# Altium schematic symbol library 常用原件库.SchLib: 31 symbols
Pins are listed as number, name and electrical type; pins without a type are passive.

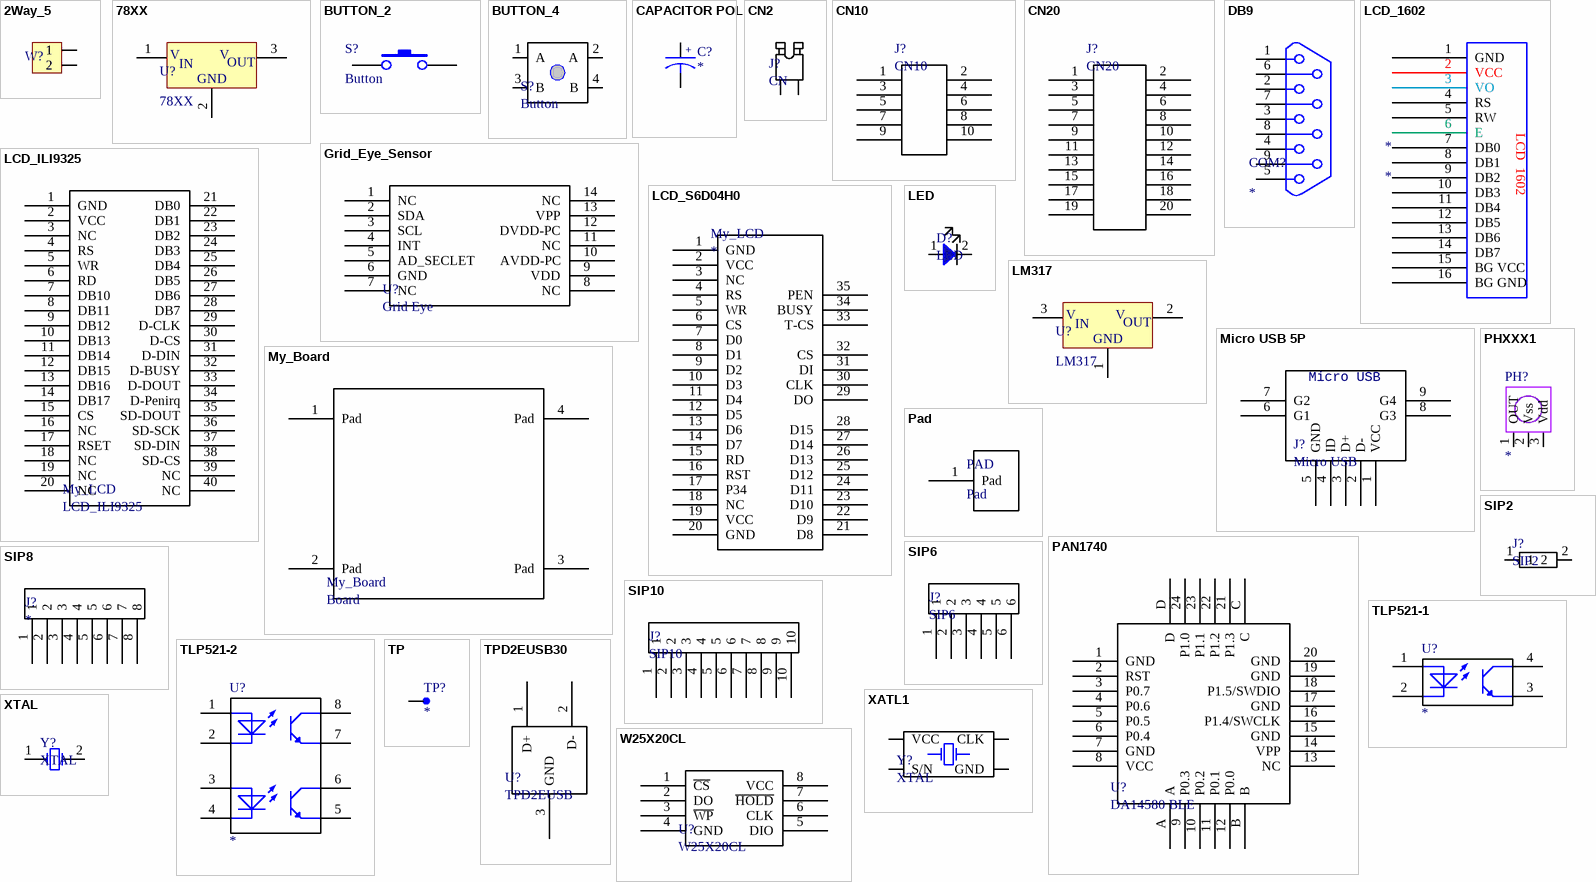
[diagram p0: symbols 2Way_5 to XTAL]

## 2Way_5
designator W?  (value not drawn)
DB
footprint 2Way_5
pins: 1, 2

## 78XX
designator U?
78XX 系列稳压芯片
footprint 78XX (78 系列的稳压片)
footprint TO-220
pins: 1 VIN, 2 GND, 3 VOUT
text: V; IN; OUT

## BUTTON_2
designator S?, comment Button
二脚按键
pins: 1, 2

## BUTTON_4
designator S?, comment Button
四脚按键
footprint My_Button (My Botton 4 pins)
pins: 1 A "My Pad", 2 A "My Pad", 3 B "My Pad", 4 B "My Pad"

## CAPACITOR POL
designator C?
Capacitor
footprint Cap_Pol_F5 (Cap F5)
footprint Cap_Pol_F6 (Cap F5)
pins: 1, 2
text: +

## CN2
designator J?, comment CN
跳帽
footprint CN2 (Header 2 X 1)
pins: 1 "My Pad", 2 "My Pad"

## CN10
designator J?
5 X 2
footprint CN10 (Header 5 X 2)
pins: 1 "My Pad", 2 "My Pad", 3 "My Pad", 4 "My Pad", 5 "My Pad", 6 "My Pad", 7 "My Pad", 8 "My Pad", 9 "My Pad", 10 "My Pad"

## CN20
designator J?
10 X 2
footprint CN20
pins: 1 "My Pad", 2 "My Pad", 3 "My Pad", 4 "My Pad", 5 "My Pad", 6 "My Pad", 7 "My Pad", 8 "My Pad", 9 "My Pad", 10 "My Pad", 11 "My Pad", 12 "My Pad", 13 "My Pad", 14 "My Pad", 15 "My Pad", 16 "My Pad", 17 "My Pad", 18 "My Pad", 19 "My Pad", 20 "My Pad"

## DB9
designator COM?
串口母头
footprint DB9
pins: 1, 2, 3, 4, 5, 6, 7, 8, 9

## Grid_Eye_Sensor
designator U?, comment Grid Eye
Grid Eye Sensor
footprint Grid_Eye_Sensor (Grid Eye Sensor)
pins: 1 NC "My Pad", 2 SDA "My Pad", 3 SCL "My Pad", 4 INT "My Pad", 5 AD_SECLET "My Pad", 6 GND "My Pad", 7 NC "My Pad", 8 NC "My Pad", 9 VDD "My Pad", 10 AVDD-PC "My Pad", 11 NC "My Pad", 12 DVDD-PC "My Pad", 13 VPP "My Pad", 14 NC "My Pad"

## LCD_1602
designator *
pins: 1 GND, 2 VCC, 3 VO, 4 RS, 5 RW, 6 E, 7 DB0, 8 DB1, 9 DB2, 10 DB3, 11 DB4, 12 DB5, 13 DB6, 14 DB7, 15 BG VCC, 16 BG GND
text: LCD  1602

## LCD_ILI9325
designator My_LCD
LCD ILI9325
footprint ILI9325 (My  ILI9325 LCD module)
pins: 1 GND "My Pad", 2 VCC "My Pad", 3 NC "My Pad", 4 RS "My Pad", 5 WR "My Pad", 6 RD "My Pad", 7 DB10 "My Pad", 8 DB11 "My Pad", 9 DB12 "My Pad", 10 DB13 "My Pad", 11 DB14 "My Pad", 12 DB15 "My Pad", 13 DB16 "My Pad", 14 DB17 "My Pad", 15 CS "My Pad", 16 NC "My Pad", 17 RSET "My Pad", 18 NC "My Pad", 19 NC "My Pad", 20 NC "My Pad", 21 DB0 "My Pad", 22 DB1 "My Pad", 23 DB2 "My Pad", 24 DB3 "My Pad", 25 DB4 "My Pad", 26 DB5 "My Pad", 27 DB6 "My Pad", 28 DB7 "My Pad", 29 D-CLK "My Pad", 30 D-CS "My Pad", 31 D-DIN "My Pad", 32 D-BUSY "My Pad", 33 D-DOUT "My Pad", 34 D-Penirq "My Pad", 35 SD-DOUT "My Pad", 36 SD-SCK "My Pad", 37 SD-DIN "My Pad", 38 SD-CS "My Pad", 39 NC "My Pad", 40 NC "My Pad"

## LCD_S6D04H0
designator My_LCD
LCD SD6404H0 module
footprint S6D04H0 (My S6D04H0 Module)
pins: 1 GND "My Pad", 2 VCC "My Pad", 3 NC "My Pad", 4 RS "My Pad", 5 WR "My Pad", 6 CS "My Pad", 7 D0 "My Pad", 8 D1 "My Pad", 9 D2 "My Pad", 10 D3 "My Pad", 11 D4 "My Pad", 12 D5 "My Pad", 13 D6 "My Pad", 14 D7 "My Pad", 15 RD "My Pad", 16 RST "My Pad", 17 P34 "My Pad", 18 NC "My Pad", 19 VCC "My Pad", 20 GND "My Pad", 21 D8 "My Pad", 22 D9 "My Pad", 23 D10 "My Pad", 24 D11 "My Pad", 25 D12 "My Pad", 26 D13 "My Pad", 27 D14 "My Pad", 28 D15 "My Pad", 29 DO "My Pad", 30 CLK "My Pad", 31 DI "My Pad", 32 CS "My Pad", 33 T-CS "My Pad", 34 BUSY "My Pad", 35 PEN "My Pad"

## LED
designator D?
footprint LED-F5 (LED F5 草帽灯)
pins: 1 "My Pad", 2 "My Pad"

## LM317
designator U?
LM317 电源芯片
footprint 78XX (78 系列的稳压片)
footprint TO-220
footprint lm1117
pins: 1 GND, 2 VOUT, 3 VIN
text: V; IN; OUT

## Micro USB 5P
designator J?, comment Micro USB
Micro USB 5P
footprint Micro USB (Micro USB 5p)
pins: 1 VCC "My Pad", 2 D- "My Pad", 3 D+ "My Pad", 4 ID "My Pad", 5 GND "My Pad", 6 G1 "My Pad", 7 G2 "My Pad", 8 G3 "My Pad", 9 G4 "My Pad"

## My_Board
designator My_Board, comment Board
My Board
footprint My_Board_9_15 (9*15cm board)
footprint My_Board_5_7 (baord 5x7cm)
footprint MY_BOARD_6_6 (My Boaed 6 x 6 cm)
pins: 1 Pad "My Pad", 2 Pad "My Pad", 3 Pad "My Pad", 4 Pad "My Pad"

## Pad
designator PAD
My Pad
footprint Pad (My Pad)
pins: 1 Pad "My Pad"

## PAN1740
designator U?, comment DA14580 BLE
DA14580 BLE MODULE
footprint PAN1740 (DA14580 BLE MODULE)
pins: 1 GND "My Pad", 2 RST "My Pad", 3 P0.7 "My Pad", 4 P0.6 "My Pad", 5 P0.5 "My Pad", 6 P0.4 "My Pad", 7 GND "My Pad", 8 VCC "My Pad", 9 P0.3 "My Pad", 10 P0.2 "My Pad", 11 P0.1 "My Pad", 12 P0.0 "My Pad", 13 NC "My Pad", 14 VPP "My Pad", 15 GND "My Pad", 16 P1.4/SWCLK "My Pad", 17 GND "My Pad", 18 P1.5/SWDIO "My Pad", 19 GND "My Pad", 20 GND "My Pad", 21 P1.3 "My Pad", 22 P1.2 "My Pad", 23 P1.1 "My Pad", 24 P1.0 "My Pad", A "My Pad", B "My Pad", C "My Pad", D "My Pad"

## PHXXX1
designator PH?
footprint TO-220
pins: 1 OUT, 2 Vss, 3 Vdd

## SIP2
designator J?
footprint SIP2
pins: 1 "My Pad", 2 "My Pad"

## SIP6
designator J?
footprint SIP6
pins: 1 "My Pad", 2 "My Pad", 3 "My Pad", 4 "My Pad", 5 "My Pad", 6 "My Pad"

## SIP8
designator J?
SIP8
footprint SIP8
pins: 1 "My Pad", 2 "My Pad", 3 "My Pad", 4 "My Pad", 5 "My Pad", 6 "My Pad", 7 "My Pad", 8 "My Pad"

## SIP10
designator J?
footprint SIP10
pins: 1 "My Pad", 2 "My Pad", 3 "My Pad", 4 "My Pad", 5 "My Pad", 6 "My Pad", 7 "My Pad", 8 "My Pad", 9 "My Pad", 10 "My Pad"

## TLP521-1
designator U?
footprint DIP-4N
pins: 1, 2, 3, 4

## TLP521-2
designator U?
footprint DIP-8N
pins: 1, 2, 3, 4, 5, 6, 7, 8

## TP
designator TP?
footprint TEST (TEST Pad)
pins: 1

## TPD2EUSB30
designator U?, comment TPD2EUSB
TPD2EUSB30
footprint TPDEUSB30
pins: 1 D+ "My Pad", 2 D- "My Pad", 3 GND "My Pad"

## W25X20CL
designator U?
footprint SOP8
pins: 1 ~{CS} "My Pad", 2 DO "My Pad", 3 ~{WP} "My Pad", 4 GND "My Pad", 5 DIO "My Pad", 6 CLK "My Pad", 7 ~{HOLD} "My Pad", 8 VCC "My Pad"

## XATL1
designator Y?, comment XTAL
footprint xtal1 (XTAL1)
pins: 1 S/N, 2 GND, 3 CLK, 4 VCC

## XTAL
designator Y?
footprint XTAL
pins: 1, 2